# Altium integrated library Maxim Sensors.IntLib: 1172 symbols (part 36 of 61)
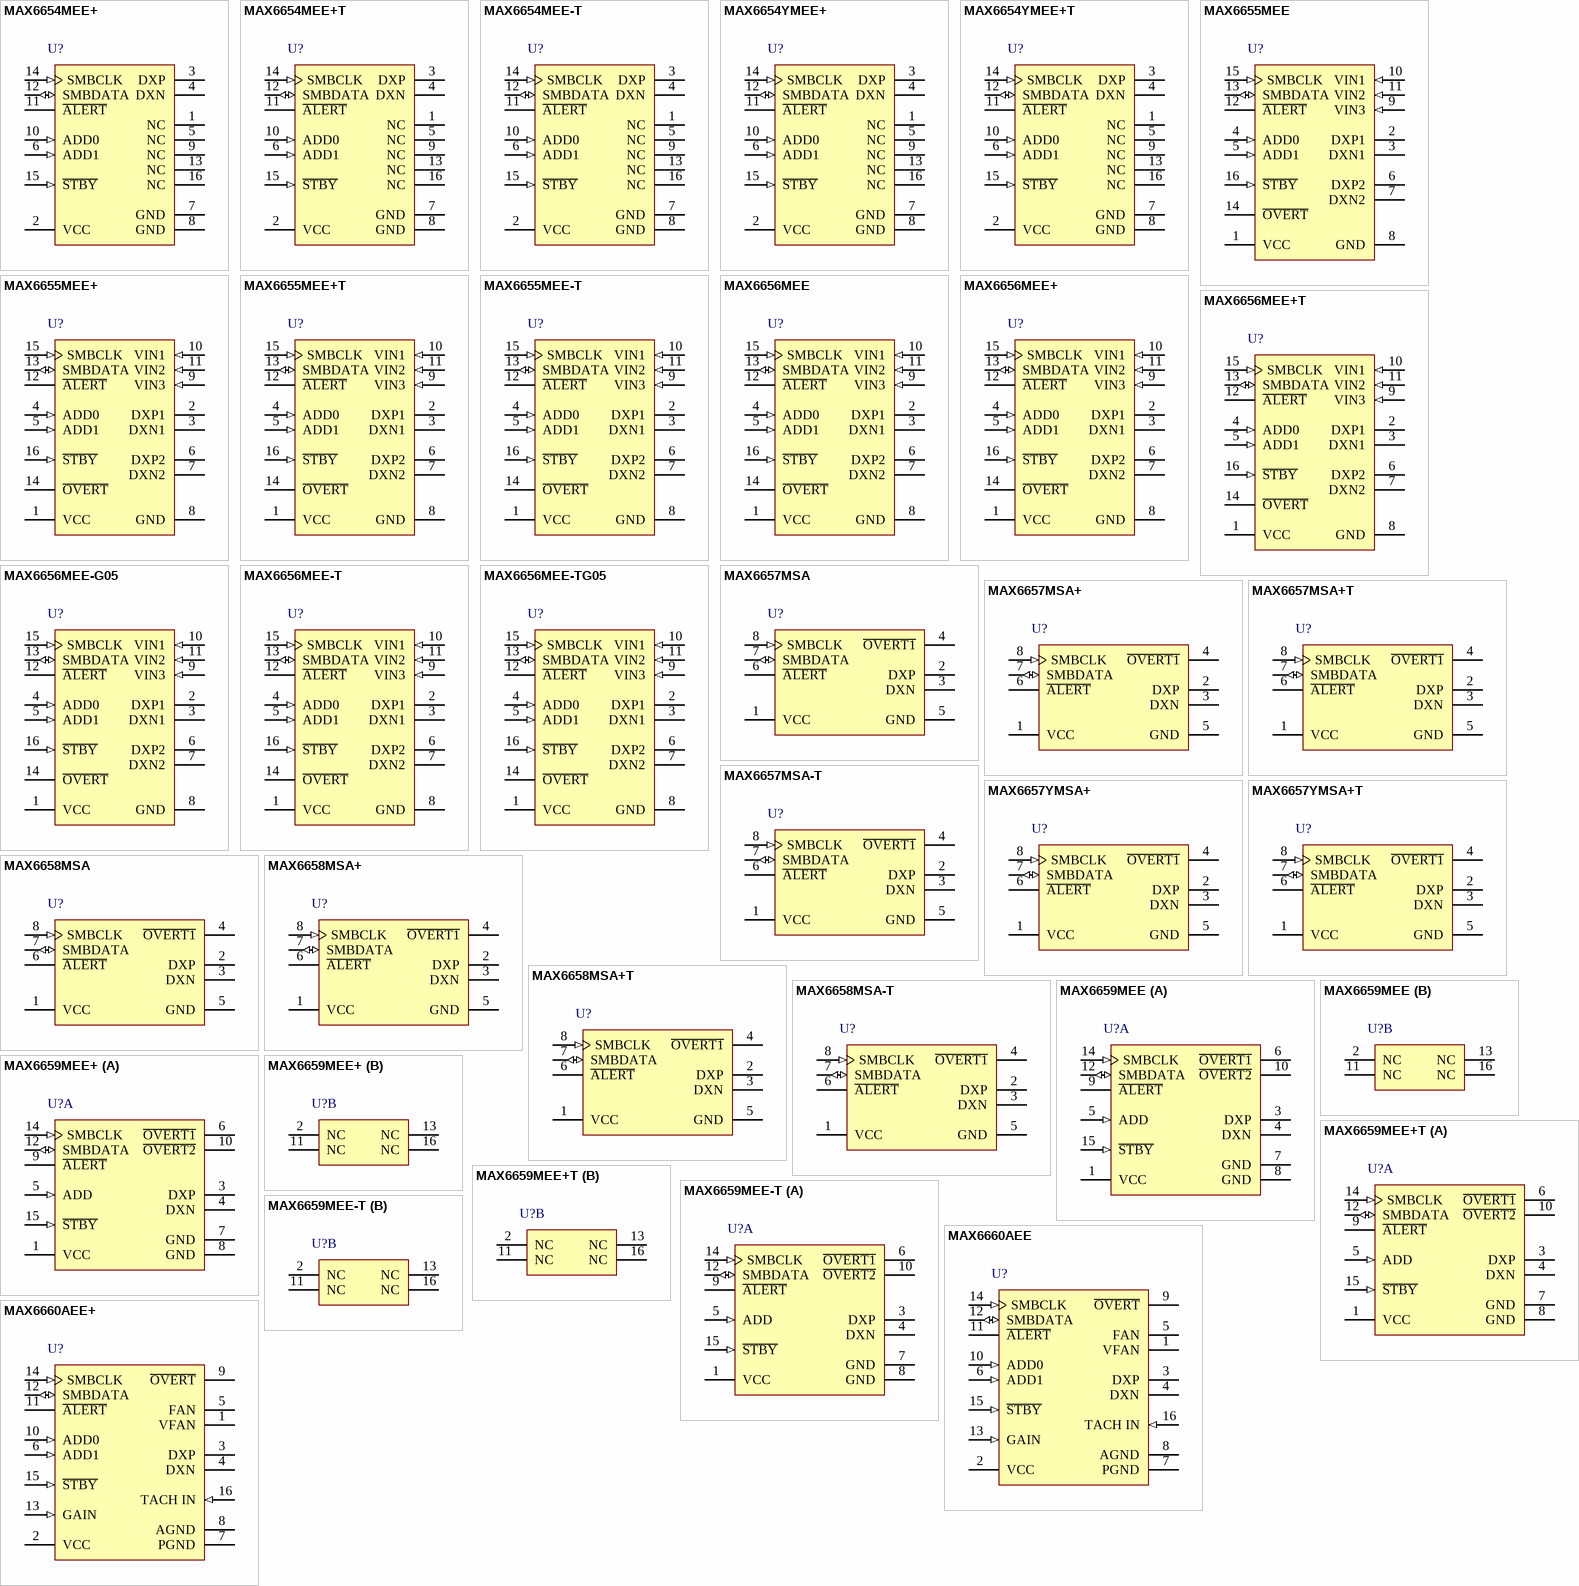
[diagram p68: symbols MAX6654MEE+ to MAX6660AEE+]

## MAX6656MEE-G05
designator U?
Dual Remote / Local Temperature Sensor and Four-Channel Voltage Monitor, 11 Bits Temperature Resolution, -55 to 125 degC, 16-Pin SOP (E16+5); Generic Part Number: MAX6656; PartNumber: MAX6656MEE-G05; Alarm Output: Alert, Overt; Functions: Remote & Local Sensor, Voltage Monitor; Interface: 2-Wire/I2C/SMBus; Multi Droppable: Yes; Parasite Pwr.: No; DatasheetVersion: Rev. 1; PackageVersion: Rev. K, 04/2012; PackageReference: E16-5; PackageDescription: 16-Pin Quarter Small-Outline Package, Body 3.9 x 4.89 mm, Pitch 0.635 mm; Supplier 1: Mouser; Supplier Part Number 1: N/A; Mounting Technology: Surface Mount; Code_JEDEC: MO-137; ComponentLink1Description: Manufacturer URL; ComponentLink1URL: http://www.maximintegrated.com/; ComponentLink2Description: Datasheet; ComponentLink2URL: http://datasheets.maximintegrated.com/en/ds/MAX6655-MAX6656.pdf; ComponentLink3Description: Package Specification; ComponentLink3URL: http://pdfserv.maximintegrated.com/package_dwgs/21-0055.PDF
footprint MAXM-E16-5_N (SOP, 16-Leads, Body 4.89x3.9mm, Pitch 0.635mm, IPC Medium Density)
footprint MAXM-E16-5_L (SOP, 16-Leads, Body 4.89x3.9mm, Pitch 0.635mm, IPC High Density)
footprint MAXM-E16-5_M (SOP, 16-Leads, Body 4.89x3.9mm, Pitch 0.635mm, IPC Low Density)
pins: 1 VCC (power) "Supply Voltage. +5V for MAX6655; +3.3V for MAX6656. Bypass VCC to GND with a 0.1uF capacitor.", 2 DXP1 "External Diode 1 Positive Connection. DXP1 is the combined current source and ADC positive input for remote-diode 1. If a remote-sensing junction is not used, connect DXP1 to DXN1.", 3 DXN1 "External Diode 1 Negative Connection. DXN1 is the combined current sink and ADC negative input for remote-diode 1. DXN1 is normally biased to a diode voltage above ground.", 4 ADD0 (in) "SMBus Slave Address Select Input. ADD0 and ADD1 are sampled upon power-up. Table 5 is the truth table.", 5 ADD1 (in) "SMBus Slave Address Select Input. ADD0 and ADD1 are sampled upon power-up.", 6 DXP2 "External Diode 2 Positive Connection. DXP2 is the combined current source and ADC positive input for remote-diode 2. If a remote-sensing junction is not used, connect DXP2 to DXN2.", 7 DXN2 "External Diode 2 Negative Connection. DXN2 is the combined current sink and ADC negative input for remote-diode 2. DXN2 is normally biased to a diode voltage above ground.", 8 GND (power) "Ground", 9 VIN3 (in) "External Voltage Monitor 3. VIN3 is typically used to monitor +2.5V supplies.", 10 VIN1 (in) "External Voltage Monitor 1. VIN1 is typically used to monitor +12V supplies.", 11 VIN2 (in) "External Voltage Monitor 2. VIN2 is typically used to monitor voltage supplies of +3.3V for MAX6655 and +5.0V for MAX6656.", 12 ~{ALERT} (oc) "SMBus Alert (Interrupt) Output, Open-Drain", 13 SMBDATA (io) "SMBus Serial-Data Input/Output, Open-Drain", 14 ~{OVERT} (oc) "Overtemperature Alarm Output, Open-Drain. O\V\E\R\T\ is an unlatched alarm output that responds to the programmed maximum temperature limit for all temperature channels.", 15 SMBCLK (in) "SMBus Serial-Clock Input", 16 ~{STBY} (in) "Hardware Standby Input. Drive S\T\B\Y\ low for low-power standby mode. Drive S\T\B\Y\ high for normal operating mode. Temperature and comparison threshold data are retained in standby mode."

## MAX6656MEE-T
designator U?
Dual Remote / Local Temperature Sensor and Four-Channel Voltage Monitor, 11 Bits Temperature Resolution, -55 to 125 degC, 16-Pin SOP (E16-5), Tape and Reel; Generic Part Number: MAX6656; PartNumber: MAX6656MEE-T; Alarm Output: Alert, Overt; Functions: Remote & Local Sensor, Voltage Monitor; Interface: 2-Wire/I2C/SMBus; Multi Droppable: Yes; Parasite Pwr.: No; DatasheetVersion: Rev. 1; PackageVersion: Rev. K, 04/2012; PackageReference: E16-5; PackageDescription: 16-Pin Quarter Small-Outline Package, Body 3.9 x 4.89 mm, Pitch 0.635 mm; Supplier 1: Digi-Key; Supplier Part Number 1: MAX6656MEE-T-ND; Supplier 2: Mouser; Supplier Part Number 2: 700-MAX6656MEE-T-NR; Packing: Tape and Reel; Mounting Technology: Surface Mount; Code_JEDEC: MO-137; ComponentLink1Description: Manufacturer URL; ComponentLink1URL: http://www.maximintegrated.com/; ComponentLink2Description: Datasheet; ComponentLink2URL: http://datasheets.maximintegrated.com/en/ds/MAX6655-MAX6656.pdf; ComponentLink3Description: Package Specification; ComponentLink3URL: http://pdfserv.maximintegrated.com/package_dwgs/21-0055.PDF
footprint MAXM-E16-5_N (SOP, 16-Leads, Body 4.89x3.9mm, Pitch 0.635mm, IPC Medium Density)
footprint MAXM-E16-5_L (SOP, 16-Leads, Body 4.89x3.9mm, Pitch 0.635mm, IPC High Density)
footprint MAXM-E16-5_M (SOP, 16-Leads, Body 4.89x3.9mm, Pitch 0.635mm, IPC Low Density)
pins: 1 VCC (power) "Supply Voltage. +5V for MAX6655; +3.3V for MAX6656. Bypass VCC to GND with a 0.1uF capacitor.", 2 DXP1 "External Diode 1 Positive Connection. DXP1 is the combined current source and ADC positive input for remote-diode 1. If a remote-sensing junction is not used, connect DXP1 to DXN1.", 3 DXN1 "External Diode 1 Negative Connection. DXN1 is the combined current sink and ADC negative input for remote-diode 1. DXN1 is normally biased to a diode voltage above ground.", 4 ADD0 (in) "SMBus Slave Address Select Input. ADD0 and ADD1 are sampled upon power-up. Table 5 is the truth table.", 5 ADD1 (in) "SMBus Slave Address Select Input. ADD0 and ADD1 are sampled upon power-up.", 6 DXP2 "External Diode 2 Positive Connection. DXP2 is the combined current source and ADC positive input for remote-diode 2. If a remote-sensing junction is not used, connect DXP2 to DXN2.", 7 DXN2 "External Diode 2 Negative Connection. DXN2 is the combined current sink and ADC negative input for remote-diode 2. DXN2 is normally biased to a diode voltage above ground.", 8 GND (power) "Ground", 9 VIN3 (in) "External Voltage Monitor 3. VIN3 is typically used to monitor +2.5V supplies.", 10 VIN1 (in) "External Voltage Monitor 1. VIN1 is typically used to monitor +12V supplies.", 11 VIN2 (in) "External Voltage Monitor 2. VIN2 is typically used to monitor voltage supplies of +3.3V for MAX6655 and +5.0V for MAX6656.", 12 ~{ALERT} (oc) "SMBus Alert (Interrupt) Output, Open-Drain", 13 SMBDATA (io) "SMBus Serial-Data Input/Output, Open-Drain", 14 ~{OVERT} (oc) "Overtemperature Alarm Output, Open-Drain. O\V\E\R\T\ is an unlatched alarm output that responds to the programmed maximum temperature limit for all temperature channels.", 15 SMBCLK (in) "SMBus Serial-Clock Input", 16 ~{STBY} (in) "Hardware Standby Input. Drive S\T\B\Y\ low for low-power standby mode. Drive S\T\B\Y\ high for normal operating mode. Temperature and comparison threshold data are retained in standby mode."

## MAX6656MEE-TG05
designator U?
Dual Remote / Local Temperature Sensor and Four-Channel Voltage Monitor, 11 Bits Temperature Resolution, -55 to 125 degC, 16-Pin SOP (E16+5); Generic Part Number: MAX6656; PartNumber: MAX6656MEE-TG05; Alarm Output: Alert, Overt; Functions: Remote & Local Sensor, Voltage Monitor; Interface: 2-Wire/I2C/SMBus; Multi Droppable: Yes; Packing: Tape and Reel; Parasite Pwr.: No; DatasheetVersion: Rev. 1; PackageVersion: Rev. K, 04/2012; PackageReference: E16-5; PackageDescription: 16-Pin Quarter Small-Outline Package, Body 3.9 x 4.89 mm, Pitch 0.635 mm; Supplier 1: Mouser; Supplier Part Number 1: N/A; Mounting Technology: Surface Mount; Code_JEDEC: MO-137; ComponentLink1Description: Manufacturer URL; ComponentLink1URL: http://www.maximintegrated.com/; ComponentLink2Description: Datasheet; ComponentLink2URL: http://datasheets.maximintegrated.com/en/ds/MAX6655-MAX6656.pdf; ComponentLink3Description: Package Specification; ComponentLink3URL: http://pdfserv.maximintegrated.com/package_dwgs/21-0055.PDF
footprint MAXM-E16-5_N (SOP, 16-Leads, Body 4.89x3.9mm, Pitch 0.635mm, IPC Medium Density)
footprint MAXM-E16-5_L (SOP, 16-Leads, Body 4.89x3.9mm, Pitch 0.635mm, IPC High Density)
footprint MAXM-E16-5_M (SOP, 16-Leads, Body 4.89x3.9mm, Pitch 0.635mm, IPC Low Density)
pins: 1 VCC (power) "Supply Voltage. +5V for MAX6655; +3.3V for MAX6656. Bypass VCC to GND with a 0.1uF capacitor.", 2 DXP1 "External Diode 1 Positive Connection. DXP1 is the combined current source and ADC positive input for remote-diode 1. If a remote-sensing junction is not used, connect DXP1 to DXN1.", 3 DXN1 "External Diode 1 Negative Connection. DXN1 is the combined current sink and ADC negative input for remote-diode 1. DXN1 is normally biased to a diode voltage above ground.", 4 ADD0 (in) "SMBus Slave Address Select Input. ADD0 and ADD1 are sampled upon power-up. Table 5 is the truth table.", 5 ADD1 (in) "SMBus Slave Address Select Input. ADD0 and ADD1 are sampled upon power-up.", 6 DXP2 "External Diode 2 Positive Connection. DXP2 is the combined current source and ADC positive input for remote-diode 2. If a remote-sensing junction is not used, connect DXP2 to DXN2.", 7 DXN2 "External Diode 2 Negative Connection. DXN2 is the combined current sink and ADC negative input for remote-diode 2. DXN2 is normally biased to a diode voltage above ground.", 8 GND (power) "Ground", 9 VIN3 (in) "External Voltage Monitor 3. VIN3 is typically used to monitor +2.5V supplies.", 10 VIN1 (in) "External Voltage Monitor 1. VIN1 is typically used to monitor +12V supplies.", 11 VIN2 (in) "External Voltage Monitor 2. VIN2 is typically used to monitor voltage supplies of +3.3V for MAX6655 and +5.0V for MAX6656.", 12 ~{ALERT} (oc) "SMBus Alert (Interrupt) Output, Open-Drain", 13 SMBDATA (io) "SMBus Serial-Data Input/Output, Open-Drain", 14 ~{OVERT} (oc) "Overtemperature Alarm Output, Open-Drain. O\V\E\R\T\ is an unlatched alarm output that responds to the programmed maximum temperature limit for all temperature channels.", 15 SMBCLK (in) "SMBus Serial-Clock Input", 16 ~{STBY} (in) "Hardware Standby Input. Drive S\T\B\Y\ low for low-power standby mode. Drive S\T\B\Y\ high for normal operating mode. Temperature and comparison threshold data are retained in standby mode."

## MAX6657MSA
designator U?
+ / -1 degC, SMBus-Compatible Remote / Local Temperature Sensor with Overtemperature Alarm, 11 Bits Temperature Resolution, 0 to 125 degC, 8-Pin SOIC (S8-5); Generic Part Number: MAX6657; PartNumber: MAX6657MSA; Alarm Output: Alert, Overt; Functions: Remote & Local Sensor; Interface: 2-Wire/I2C/SMBus; Multi Droppable: Yes; Parasite Pwr.: No; DatasheetVersion: Rev. 5; PackageVersion: Rev. D, 10/2012; PackageReference: S8-5; PackageDescription: 8-Pin Small-Outline IC, Narrow (0.15in) (S8-5), Body 4.90 x 3.90 mm, Pitch 1.27 mm; Supplier 1: Mouser; Supplier Part Number 1: N/A; Mounting Technology: Surface Mount; Code_JEDEC: MS012; ComponentLink1Description: Manufacturer URL; ComponentLink1URL: http://www.maximintegrated.com/; ComponentLink2Description: Datasheet; ComponentLink2URL: http://datasheets.maximintegrated.com/en/ds/MAX6657-MAX6659.pdf; ComponentLink3Description: Package Specification; ComponentLink3URL: http://pdfserv.maximintegrated.com/package_dwgs/21-0041.PDF
footprint MAXM-S8-5_N (SOIC, 8-Leads, Body 4.9x3.9mm, Pitch 1.27mm, IPC Medium Density)
footprint MAXM-S8-5_L (SOIC, 8-Leads, Body 4.9x3.9mm, Pitch 1.27mm, IPC High Density)
footprint MAXM-S8-5_M (SOIC, 8-Leads, Body 4.9x3.9mm, Pitch 1.27mm, IPC Low Density)
pins: 1 VCC (power) "Supply Voltage Input, +3V to +5.5V. Bypass to GND with a 0.1uF capacitor. A 200ohm series resistor is recommended but not required for additional noise filtering. See Typical Operating Circuit.", 2 DXP "Combined Remote-Diode Current Source and A/D Positive Input for Remote-Diode Channel. DO NOT LEAVE DXP UNCONNECTED; connect DXP to DXN if no remote diode is used. Place a 2200pF capacitor between DXP and DXN for noise (See Datasheet)", 3 DXN "Combined Remote-Diode Current Sink and A/D Negative Input. DXN is internally biased to one diode drop above ground.", 4 ~{OVERT1} (oc) "Overtemperature Active-Low Output, Open-Drain. Output is logic low only when temperature is above the software programmed threshold.", 5 GND (power) "Ground", 6 ~{ALERT} (oc) "SMBus Alert (Interrupt) Active-Low Output, Open-Drain. Asserts when temperature exceeds user-set limits (high or low temperature). Stays asserted until acknowledged by either reading the Status register or by successfully (See Datasheet)", 7 SMBDATA (io) "SMBus Serial-Data Input/Output, Open-Drain", 8 SMBCLK (in) "SMBus Serial-Clock Input"

## MAX6657MSA+
designator U?
+ / -1 degC, SMBus-Compatible Remote / Local Temperature Sensor with Overtemperature Alarm, 11 Bits Temperature Resolution, 0 to 125 degC, 8-Pin SOIC (S8-5), Pb-Free; Generic Part Number: MAX6657; PartNumber: MAX6657MSA+; Alarm Output: Alert, Overt; Functions: Remote & Local Sensor; Interface: 2-Wire/I2C/SMBus; Multi Droppable: Yes; Parasite Pwr.: No; DatasheetVersion: Rev. 5; PackageVersion: Rev. D, 10/2012; PackageReference: S8+5; PackageDescription: 8-Pin Small-Outline IC, Narrow (0.15in) (S8+5), Body 4.90 x 3.90 mm, Pitch 1.27 mm; Supplier 1: Digi-Key; Supplier Part Number 1: MAX6657MSA+-ND; Supplier 2: Mouser; Supplier Part Number 2: 700-MAX6657MSA; Mounting Technology: Surface Mount; Code_JEDEC: MS012; ComponentLink1Description: Manufacturer URL; ComponentLink1URL: http://www.maximintegrated.com/; ComponentLink2Description: Datasheet; ComponentLink2URL: http://datasheets.maximintegrated.com/en/ds/MAX6657-MAX6659.pdf; ComponentLink3Description: Package Specification; ComponentLink3URL: http://pdfserv.maximintegrated.com/package_dwgs/21-0041.PDF
footprint MAXM-S8+5_N (SOIC, 8-Leads, Body 4.90x3.90mm, Pitch 1.27mm, IPC Medium Density)
footprint MAXM-S8+5_L (SOIC, 8-Leads, Body 4.90x3.90mm, Pitch 1.27mm, IPC High Density)
footprint MAXM-S8+5_M (SOIC, 8-Leads, Body 4.90x3.90mm, Pitch 1.27mm, IPC Low Density)
pins: 1 VCC (power) "Supply Voltage Input, +3V to +5.5V. Bypass to GND with a 0.1uF capacitor. A 200ohm series resistor is recommended but not required for additional noise filtering. See Typical Operating Circuit", 2 DXP "Combined Remote-Diode Current Source and A/D Positive Input for Remote-Diode Channel. DO NOT LEAVE DXP UNCONNECTED; connect DXP to DXN if no remote diode is used. Place a 2200pF capacitor between DXP and DXN for noise (See Datasheet)", 3 DXN "Combined Remote-Diode Current Sink and A/D Negative Input. DXN is internally biased to one diode drop above ground.", 4 ~{OVERT1} (oc) "Overtemperature Active-Low Output, Open-Drain. Output is logic low only when temperature is above the software programmed threshold.", 5 GND (power) "Ground", 6 ~{ALERT} (oc) "SMBus Alert (Interrupt) Active-Low Output, Open-Drain. Asserts when temperature exceeds user-set limits (high or low temperature). Stays asserted until acknowledged by either reading the Status register or by successfully (See Datasheet)", 7 SMBDATA (io) "SMBus Serial-Data Input/Output, Open-Drain", 8 SMBCLK (in) "SMBus Serial-Clock Input"

## MAX6657MSA+T
designator U?
+ / -1 degC, SMBus-Compatible Remote / Local Temperature Sensor with Overtemperature Alarm, 11 Bits Temperature Resolution, 0 to 125 degC, 8-Pin SOIC (S8-5), Pb-Free, Tape and Reel; Generic Part Number: MAX6657; PartNumber: MAX6657MSA+T; Alarm Output: Alert, Overt; Functions: Remote & Local Sensor; Interface: 2-Wire/I2C/SMBus; Multi Droppable: Yes; Parasite Pwr.: No; DatasheetVersion: Rev. 5; PackageVersion: Rev. D, 10/2012; PackageReference: S8+5; PackageDescription: 8-Pin Small-Outline IC, Narrow (0.15in) (S8+5), Body 4.90 x 3.90 mm, Pitch 1.27 mm; Supplier 1: Digi-Key; Supplier Part Number 1: MAX6657MSA+TTR-ND; Supplier 2: Digi-Key; Supplier Part Number 2: MAX6657MSA+TCT-ND; Supplier 3: Digi-Key; Supplier Part Number 3: MAX6657MSA+TDKR-ND; Supplier 4: Mouser; Supplier Part Number 4: 700-MAX6657MSAT; Packing: Tape and Reel; Mounting Technology: Surface Mount; Code_JEDEC: MS012; ComponentLink1Description: Manufacturer URL; ComponentLink1URL: http://www.maximintegrated.com/; ComponentLink2Description: Datasheet; ComponentLink2URL: http://datasheets.maximintegrated.com/en/ds/MAX6657-MAX6659.pdf; ComponentLink3Description: Package Specification; ComponentLink3URL: http://pdfserv.maximintegrated.com/package_dwgs/21-0041.PDF
footprint MAXM-S8+5_N (SOIC, 8-Leads, Body 4.90x3.90mm, Pitch 1.27mm, IPC Medium Density)
footprint MAXM-S8+5_L (SOIC, 8-Leads, Body 4.90x3.90mm, Pitch 1.27mm, IPC High Density)
footprint MAXM-S8+5_M (SOIC, 8-Leads, Body 4.90x3.90mm, Pitch 1.27mm, IPC Low Density)
pins: 1 VCC (power) "Supply Voltage Input, +3V to +5.5V. Bypass to GND with a 0.1uF capacitor. A 200ohm series resistor is recommended but not required for additional noise filtering. See Typical Operating Circuit", 2 DXP "Combined Remote-Diode Current Source and A/D Positive Input for Remote-Diode Channel. DO NOT LEAVE DXP UNCONNECTED; connect DXP to DXN if no remote diode is used. Place a 2200pF capacitor between DXP and DXN for noise (See Datasheet)", 3 DXN "Combined Remote-Diode Current Sink and A/D Negative Input. DXN is internally biased to one diode drop above ground.", 4 ~{OVERT1} (oc) "Overtemperature Active-Low Output, Open-Drain. Output is logic low only when temperature is above the software programmed threshold.", 5 GND (power) "Ground", 6 ~{ALERT} (oc) "SMBus Alert (Interrupt) Active-Low Output, Open-Drain. Asserts when temperature exceeds user-set limits (high or low temperature). Stays asserted until acknowledged by either reading the Status register or by successfully (See Datasheet)", 7 SMBDATA (io) "SMBus Serial-Data Input/Output, Open-Drain", 8 SMBCLK (in) "SMBus Serial-Clock Input"

## MAX6657MSA-T
designator U?
+ / -1 degC, SMBus-Compatible Remote / Local Temperature Sensor with Overtemperature Alarm, 11 Bits Temperature Resolution, 0 to 125 degC, 8-Pin SOIC (S8-5), Tape and Reel; Generic Part Number: MAX6657; PartNumber: MAX6657MSA-T; Alarm Output: Alert, Overt; Functions: Remote & Local Sensor; Interface: 2-Wire/I2C/SMBus; Multi Droppable: Yes; Parasite Pwr.: No; DatasheetVersion: Rev. 5; PackageVersion: Rev. D, 10/2012; PackageReference: S8-5; PackageDescription: 8-Pin Small-Outline IC, Narrow (0.15in) (S8-5), Body 4.90 x 3.90 mm, Pitch 1.27 mm; Supplier 1: Mouser; Supplier Part Number 1: N/A; Packing: Tape and Reel; Mounting Technology: Surface Mount; Code_JEDEC: MS012; ComponentLink1Description: Manufacturer URL; ComponentLink1URL: http://www.maximintegrated.com/; ComponentLink2Description: Datasheet; ComponentLink2URL: http://datasheets.maximintegrated.com/en/ds/MAX6657-MAX6659.pdf; ComponentLink3Description: Package Specification; ComponentLink3URL: http://pdfserv.maximintegrated.com/package_dwgs/21-0041.PDF
footprint MAXM-S8-5_N (SOIC, 8-Leads, Body 4.9x3.9mm, Pitch 1.27mm, IPC Medium Density)
footprint MAXM-S8-5_L (SOIC, 8-Leads, Body 4.9x3.9mm, Pitch 1.27mm, IPC High Density)
footprint MAXM-S8-5_M (SOIC, 8-Leads, Body 4.9x3.9mm, Pitch 1.27mm, IPC Low Density)
pins: 1 VCC (power) "Supply Voltage Input, +3V to +5.5V. Bypass to GND with a 0.1uF capacitor. A 200ohm series resistor is recommended but not required for additional noise filtering. See Typical Operating Circuit.", 2 DXP "Combined Remote-Diode Current Source and A/D Positive Input for Remote-Diode Channel. DO NOT LEAVE DXP UNCONNECTED; connect DXP to DXN if no remote diode is used. Place a 2200pF capacitor between DXP and DXN for noise (See Datasheet)", 3 DXN "Combined Remote-Diode Current Sink and A/D Negative Input. DXN is internally biased to one diode drop above ground.", 4 ~{OVERT1} (oc) "Overtemperature Active-Low Output, Open-Drain. Output is logic low only when temperature is above the software programmed threshold.", 5 GND (power) "Ground", 6 ~{ALERT} (oc) "SMBus Alert (Interrupt) Active-Low Output, Open-Drain. Asserts when temperature exceeds user-set limits (high or low temperature). Stays asserted until acknowledged by either reading the Status register or by successfully (See Datasheet)", 7 SMBDATA (io) "SMBus Serial-Data Input/Output, Open-Drain", 8 SMBCLK (in) "SMBus Serial-Clock Input"

## MAX6657YMSA+
designator U?
+ / -1 degC, SMBus-Compatible Remote / Local Temperature Sensor with Overtemperature Alarm, 11 Bits Temperature Resolution, 0 to 125 degC, 8-Pin SOIC (S8+5), Pb-Free,; Generic Part Number: MAX6657; PartNumber: MAX6657YMSA+; Alarm Output: Alert, Overt; Functions: Remote & Local Sensor; Interface: 2-Wire/I2C/SMBus; Multi Droppable: Yes; Parasite Pwr.: No; DatasheetVersion: Rev. 5; PackageVersion: Rev. D, 10/2012; PackageReference: S8+5; PackageDescription: 8-Pin Small-Outline IC, Narrow (0.15in) (S8+5), Body 4.90 x 3.90 mm, Pitch 1.27 mm; Supplier 1: Digi-Key; Supplier Part Number 1: MAX6657YMSA+-ND; Supplier 2: Mouser; Supplier Part Number 2: 700-MAX6657YMSA; Mounting Technology: Surface Mount; Code_JEDEC: MS012; ComponentLink1Description: Manufacturer URL; ComponentLink1URL: http://www.maximintegrated.com/; ComponentLink2Description: Datasheet; ComponentLink2URL: http://datasheets.maximintegrated.com/en/ds/MAX6657-MAX6659.pdf; ComponentLink3Description: Package Specification; ComponentLink3URL: http://pdfserv.maximintegrated.com/package_dwgs/21-0041.PDF
footprint MAXM-S8+5_N (SOIC, 8-Leads, Body 4.90x3.90mm, Pitch 1.27mm, IPC Medium Density)
footprint MAXM-S8+5_L (SOIC, 8-Leads, Body 4.90x3.90mm, Pitch 1.27mm, IPC High Density)
footprint MAXM-S8+5_M (SOIC, 8-Leads, Body 4.90x3.90mm, Pitch 1.27mm, IPC Low Density)
pins: 1 VCC (power) "Supply Voltage Input, +3V to +5.5V. Bypass to GND with a 0.1uF capacitor. A 200ohm series resistor is recommended but not required for additional noise filtering. See Typical Operating Circuit", 2 DXP "Combined Remote-Diode Current Source and A/D Positive Input for Remote-Diode Channel. DO NOT LEAVE DXP UNCONNECTED; connect DXP to DXN if no remote diode is used. Place a 2200pF capacitor between DXP and DXN for noise (See Datasheet)", 3 DXN "Combined Remote-Diode Current Sink and A/D Negative Input. DXN is internally biased to one diode drop above ground.", 4 ~{OVERT1} (oc) "Overtemperature Active-Low Output, Open-Drain. Output is logic low only when temperature is above the software programmed threshold.", 5 GND (power) "Ground", 6 ~{ALERT} (oc) "SMBus Alert (Interrupt) Active-Low Output, Open-Drain. Asserts when temperature exceeds user-set limits (high or low temperature). Stays asserted until acknowledged by either reading the Status register or by successfully (See Datasheet)", 7 SMBDATA (io) "SMBus Serial-Data Input/Output, Open-Drain", 8 SMBCLK (in) "SMBus Serial-Clock Input"

## MAX6657YMSA+T
designator U?
+ / -1 degC, SMBus-Compatible Remote / Local Temperature Sensor with Overtemperature Alarm, 11 Bits Temperature Resolution, 0 to 125 degC, 8-Pin SOIC (S8+5), Pb-Free, Tape and Reel; Generic Part Number: MAX6657; PartNumber: MAX6657YMSA+T; Alarm Output: Alert, Overt; Functions: Remote & Local Sensor; Interface: 2-Wire/I2C/SMBus; Multi Droppable: Yes; Parasite Pwr.: No; DatasheetVersion: Rev. 5; PackageVersion: Rev. D, 10/2012; PackageReference: S8+5; PackageDescription: 8-Pin Small-Outline IC, Narrow (0.15in) (S8+5), Body 4.90 x 3.90 mm, Pitch 1.27 mm; Supplier 1: Digi-Key; Supplier Part Number 1: MAX6657YMSA+T-ND; Supplier 2: Mouser; Supplier Part Number 2: 700-MAX6657YMSAT; Packing: Tape and Reel; Mounting Technology: Surface Mount; Code_JEDEC: MS012; ComponentLink1Description: Manufacturer URL; ComponentLink1URL: http://www.maximintegrated.com/; ComponentLink2Description: Datasheet; ComponentLink2URL: http://datasheets.maximintegrated.com/en/ds/MAX6657-MAX6659.pdf; ComponentLink3Description: Package Specification; ComponentLink3URL: http://pdfserv.maximintegrated.com/package_dwgs/21-0041.PDF
footprint MAXM-S8+5_N (SOIC, 8-Leads, Body 4.90x3.90mm, Pitch 1.27mm, IPC Medium Density)
footprint MAXM-S8+5_L (SOIC, 8-Leads, Body 4.90x3.90mm, Pitch 1.27mm, IPC High Density)
footprint MAXM-S8+5_M (SOIC, 8-Leads, Body 4.90x3.90mm, Pitch 1.27mm, IPC Low Density)
pins: 1 VCC (power) "Supply Voltage Input, +3V to +5.5V. Bypass to GND with a 0.1uF capacitor. A 200ohm series resistor is recommended but not required for additional noise filtering. See Typical Operating Circuit", 2 DXP "Combined Remote-Diode Current Source and A/D Positive Input for Remote-Diode Channel. DO NOT LEAVE DXP UNCONNECTED; connect DXP to DXN if no remote diode is used. Place a 2200pF capacitor between DXP and DXN for noise (See Datasheet)", 3 DXN "Combined Remote-Diode Current Sink and A/D Negative Input. DXN is internally biased to one diode drop above ground.", 4 ~{OVERT1} (oc) "Overtemperature Active-Low Output, Open-Drain. Output is logic low only when temperature is above the software programmed threshold.", 5 GND (power) "Ground", 6 ~{ALERT} (oc) "SMBus Alert (Interrupt) Active-Low Output, Open-Drain. Asserts when temperature exceeds user-set limits (high or low temperature). Stays asserted until acknowledged by either reading the Status register or by successfully (See Datasheet)", 7 SMBDATA (io) "SMBus Serial-Data Input/Output, Open-Drain", 8 SMBCLK (in) "SMBus Serial-Clock Input"

## MAX6658MSA
designator U?
+ / -1 degC, SMBus-Compatible Remote / Local Temperature Sensor with Overtemperature Alarm, 11 Bits Temperature Resolution, -55 to 125 degC, 8-Pin SOIC (S8-5); Generic Part Number: MAX6658; PartNumber: MAX6658MSA; Alarm Output: Alert, Overt; Functions: Remote & Local Sensor; Interface: 2-Wire/I2C/SMBus; Multi Droppable: Yes; Parasite Pwr.: No; DatasheetVersion: Rev. 5; PackageVersion: Rev. D, 10/2012; PackageReference: S8-5; PackageDescription: 8-Pin Small-Outline IC, Narrow (0.15in) (S8-5), Body 4.90 x 3.90 mm, Pitch 1.27 mm; Supplier 1: Mouser; Supplier Part Number 1: N/A; Mounting Technology: Surface Mount; Code_JEDEC: MS012; ComponentLink1Description: Manufacturer URL; ComponentLink1URL: http://www.maximintegrated.com/; ComponentLink2Description: Datasheet; ComponentLink2URL: http://datasheets.maximintegrated.com/en/ds/MAX6657-MAX6659.pdf; ComponentLink3Description: Package Specification; ComponentLink3URL: http://pdfserv.maximintegrated.com/package_dwgs/21-0041.PDF
footprint MAXM-S8-5_N (SOIC, 8-Leads, Body 4.9x3.9mm, Pitch 1.27mm, IPC Medium Density)
footprint MAXM-S8-5_L (SOIC, 8-Leads, Body 4.9x3.9mm, Pitch 1.27mm, IPC High Density)
footprint MAXM-S8-5_M (SOIC, 8-Leads, Body 4.9x3.9mm, Pitch 1.27mm, IPC Low Density)
pins: 1 VCC (power) "Supply Voltage Input, +3V to +5.5V. Bypass to GND with a 0.1uF capacitor. A 200ohm series resistor is recommended but not required for additional noise filtering. See Typical Operating Circuit", 2 DXP "Combined Remote-Diode Current Source and A/D Positive Input for Remote-Diode Channel. DO NOT LEAVE DXP UNCONNECTED; connect DXP to DXN if no remote diode is used. Place a 2200pF capacitor between DXP and DXN for noise (See Datasheet)", 3 DXN "Combined Remote-Diode Current Sink and A/D Negative Input. DXN is internally biased to one diode drop above ground.", 4 ~{OVERT1} (oc) "Overtemperature Active-Low Output, Open-Drain. Output is logic low only when temperature is above the software programmed threshold.", 5 GND (power) "Ground", 6 ~{ALERT} (oc) "SMBus Alert (Interrupt) Active-Low Output, Open-Drain. Asserts when temperature exceeds user-set limits (high or low temperature). Stays asserted until acknowledged by either reading the Status register or by successfully (See Datasheet)", 7 SMBDATA (io) "SMBus Serial-Data Input/Output, Open-Drain", 8 SMBCLK (in) "SMBus Serial-Clock Input"

## MAX6658MSA+
designator U?
+ / -1 degC, SMBus-Compatible Remote / Local Temperature Sensor with Overtemperature Alarm, 11 Bits Temperature Resolution, -55 to 125 degC, 8-Pin SOIC (S8+5), Pb-Free; Generic Part Number: MAX6658; PartNumber: MAX6658MSA+; Alarm Output: Alert, Overt; Functions: Remote & Local Sensor; Interface: 2-Wire/I2C/SMBus; Multi Droppable: Yes; Parasite Pwr.: No; DatasheetVersion: Rev. 5; PackageVersion: Rev. D, 10/2012; PackageReference: S8+5; PackageDescription: 8-Pin Small-Outline IC, Narrow (0.15in) (S8+5), Body 4.90 x 3.90 mm, Pitch 1.27 mm; Supplier 1: Digi-Key; Supplier Part Number 1: MAX6658MSA+-ND; Supplier 2: Newark; Supplier Part Number 2: 68K4974; Supplier 3: Mouser; Supplier Part Number 3: 700-MAX6658MSA; Mounting Technology: Surface Mount; Code_JEDEC: MS012; ComponentLink1Description: Manufacturer URL; ComponentLink1URL: http://www.maximintegrated.com/; ComponentLink2Description: Datasheet; ComponentLink2URL: http://datasheets.maximintegrated.com/en/ds/MAX6657-MAX6659.pdf; ComponentLink3Description: Package Specification; ComponentLink3URL: http://pdfserv.maximintegrated.com/package_dwgs/21-0041.PDF
footprint MAXM-S8+5_N (SOIC, 8-Leads, Body 4.90x3.90mm, Pitch 1.27mm, IPC Medium Density)
footprint MAXM-S8+5_L (SOIC, 8-Leads, Body 4.90x3.90mm, Pitch 1.27mm, IPC High Density)
footprint MAXM-S8+5_M (SOIC, 8-Leads, Body 4.90x3.90mm, Pitch 1.27mm, IPC Low Density)
pins: 1 VCC (power) "Supply Voltage Input, +3V to +5.5V. Bypass to GND with a 0.1uF capacitor. A 200ohm series resistor is recommended but not required for additional noise filtering. See Typical Operating Circuit", 2 DXP "Combined Remote-Diode Current Source and A/D Positive Input for Remote-Diode Channel. DO NOT LEAVE DXP UNCONNECTED; connect DXP to DXN if no remote diode is used. Place a 2200pF capacitor between DXP and DXN for noise (See Datasheet)", 3 DXN "Combined Remote-Diode Current Sink and A/D Negative Input. DXN is internally biased to one diode drop above ground.", 4 ~{OVERT1} (oc) "Overtemperature Active-Low Output, Open-Drain. Output is logic low only when temperature is above the software programmed threshold.", 5 GND (power) "Ground", 6 ~{ALERT} (oc) "SMBus Alert (Interrupt) Active-Low Output, Open-Drain. Asserts when temperature exceeds user-set limits (high or low temperature). Stays asserted until acknowledged by either reading the Status register or by successfully (See Datasheet)", 7 SMBDATA (io) "SMBus Serial-Data Input/Output, Open-Drain", 8 SMBCLK (in) "SMBus Serial-Clock Input"

## MAX6658MSA+T
designator U?
+ / -1 degC, SMBus-Compatible Remote / Local Temperature Sensor with Overtemperature Alarm, 11 Bits Temperature Resolution, -55 to 125 degC, 8-Pin SOIC (S8+5), Pb-Free, Tape and Reel; Generic Part Number: MAX6658; PartNumber: MAX6658MSA+T; Alarm Output: Alert, Overt; Functions: Remote & Local Sensor; Interface: 2-Wire/I2C/SMBus; Multi Droppable: Yes; Parasite Pwr.: No; DatasheetVersion: Rev. 5; PackageVersion: Rev. D, 10/2012; PackageReference: S8+5; PackageDescription: 8-Pin Small-Outline IC, Narrow (0.15in) (S8+5), Body 4.90 x 3.90 mm, Pitch 1.27 mm; Supplier 1: Digi-Key; Supplier Part Number 1: MAX6658MSA+T-ND; Supplier 2: Mouser; Supplier Part Number 2: 700-MAX6658MSAT; Packing: Tape and Reel; Mounting Technology: Surface Mount; Code_JEDEC: MS012; ComponentLink1Description: Manufacturer URL; ComponentLink1URL: http://www.maximintegrated.com/; ComponentLink2Description: Datasheet; ComponentLink2URL: http://datasheets.maximintegrated.com/en/ds/MAX6657-MAX6659.pdf; ComponentLink3Description: Package Specification; ComponentLink3URL: http://pdfserv.maximintegrated.com/package_dwgs/21-0041.PDF
footprint MAXM-S8+5_N (SOIC, 8-Leads, Body 4.90x3.90mm, Pitch 1.27mm, IPC Medium Density)
footprint MAXM-S8+5_L (SOIC, 8-Leads, Body 4.90x3.90mm, Pitch 1.27mm, IPC High Density)
footprint MAXM-S8+5_M (SOIC, 8-Leads, Body 4.90x3.90mm, Pitch 1.27mm, IPC Low Density)
pins: 1 VCC (power) "Supply Voltage Input, +3V to +5.5V. Bypass to GND with a 0.1uF capacitor. A 200ohm series resistor is recommended but not required for additional noise filtering. See Typical Operating Circuit", 2 DXP "Combined Remote-Diode Current Source and A/D Positive Input for Remote-Diode Channel. DO NOT LEAVE DXP UNCONNECTED; connect DXP to DXN if no remote diode is used. Place a 2200pF capacitor between DXP and DXN for noise (See Datasheet)", 3 DXN "Combined Remote-Diode Current Sink and A/D Negative Input. DXN is internally biased to one diode drop above ground.", 4 ~{OVERT1} (oc) "Overtemperature Active-Low Output, Open-Drain. Output is logic low only when temperature is above the software programmed threshold.", 5 GND (power) "Ground", 6 ~{ALERT} (oc) "SMBus Alert (Interrupt) Active-Low Output, Open-Drain. Asserts when temperature exceeds user-set limits (high or low temperature). Stays asserted until acknowledged by either reading the Status register or by successfully (See Datasheet)", 7 SMBDATA (io) "SMBus Serial-Data Input/Output, Open-Drain", 8 SMBCLK (in) "SMBus Serial-Clock Input"

## MAX6658MSA-T
designator U?
+ / -1 degC, SMBus-Compatible Remote / Local Temperature Sensor with Overtemperature Alarm, 11 Bits Temperature Resolution, -55 to 125 degC, 8-Pin SOIC (S8-5), Tape and Reel; Generic Part Number: MAX6658; PartNumber: MAX6658MSA-T; Alarm Output: Alert, Overt; Functions: Remote & Local Sensor; Interface: 2-Wire/I2C/SMBus; Multi Droppable: Yes; Parasite Pwr.: No; DatasheetVersion: Rev. 5; PackageVersion: Rev. D, 10/2012; PackageReference: S8-5; PackageDescription: 8-Pin Small-Outline IC, Narrow (0.15in) (S8-5), Body 4.90 x 3.90 mm, Pitch 1.27 mm; Supplier 1: Mouser; Supplier Part Number 1: N/A; Packing: Tape and Reel; Mounting Technology: Surface Mount; Code_JEDEC: MS012; ComponentLink1Description: Manufacturer URL; ComponentLink1URL: http://www.maximintegrated.com/; ComponentLink2Description: Datasheet; ComponentLink2URL: http://datasheets.maximintegrated.com/en/ds/MAX6657-MAX6659.pdf; ComponentLink3Description: Package Specification; ComponentLink3URL: http://pdfserv.maximintegrated.com/package_dwgs/21-0041.PDF
footprint MAXM-S8-5_N (SOIC, 8-Leads, Body 4.9x3.9mm, Pitch 1.27mm, IPC Medium Density)
footprint MAXM-S8-5_L (SOIC, 8-Leads, Body 4.9x3.9mm, Pitch 1.27mm, IPC High Density)
footprint MAXM-S8-5_M (SOIC, 8-Leads, Body 4.9x3.9mm, Pitch 1.27mm, IPC Low Density)
pins: 1 VCC (power) "Supply Voltage Input, +3V to +5.5V. Bypass to GND with a 0.1uF capacitor. A 200ohm series resistor is recommended but not required for additional noise filtering. See Typical Operating Circuit", 2 DXP "Combined Remote-Diode Current Source and A/D Positive Input for Remote-Diode Channel. DO NOT LEAVE DXP UNCONNECTED; connect DXP to DXN if no remote diode is used. Place a 2200pF capacitor between DXP and DXN for noise (See Datasheet)", 3 DXN "Combined Remote-Diode Current Sink and A/D Negative Input. DXN is internally biased to one diode drop above ground.", 4 ~{OVERT1} (oc) "Overtemperature Active-Low Output, Open-Drain. Output is logic low only when temperature is above the software programmed threshold.", 5 GND (power) "Ground", 6 ~{ALERT} (oc) "SMBus Alert (Interrupt) Active-Low Output, Open-Drain. Asserts when temperature exceeds user-set limits (high or low temperature). Stays asserted until acknowledged by either reading the Status register or by successfully (See Datasheet)", 7 SMBDATA (io) "SMBus Serial-Data Input/Output, Open-Drain", 8 SMBCLK (in) "SMBus Serial-Clock Input"

## MAX6659MEE
designator U?
+ / -1 degC, SMBus-Compatible Remote / Local Temperature Sensor with Overtemperature Alarm, 11 Bits Temperature Resolution, -55 to 125 degC, 16-Pin SOP (E16-5); Generic Part Number: MAX6659; PartNumber: MAX6659MEE; Alarm Output: Alert, Overt; Functions: Remote & Local Sensor; Interface: 2-Wire/I2C/SMBus; Multi Droppable: Yes; Parasite Pwr.: No; DatasheetVersion: Rev. 5; PackageVersion: Rev. K, 04/2012; PackageReference: E16-5; PackageDescription: 16-Pin Quarter Small-Outline Package, Body 3.9 x 4.89 mm, Pitch 0.635 mm; Supplier 1: Mouser; Supplier Part Number 1: N/A; Mounting Technology: Surface Mount; Code_JEDEC: MO-137; ComponentLink1Description: Manufacturer URL; ComponentLink1URL: http://www.maximintegrated.com/; ComponentLink2Description: Datasheet; ComponentLink2URL: http://datasheets.maximintegrated.com/en/ds/MAX6657-MAX6659.pdf; ComponentLink3Description: Package Specification; ComponentLink3URL: http://pdfserv.maximintegrated.com/package_dwgs/21-0055.PDF
footprint MAXM-E16-5_N (SOP, 16-Leads, Body 4.89x3.9mm, Pitch 0.635mm, IPC Medium Density)
footprint MAXM-E16-5_L (SOP, 16-Leads, Body 4.89x3.9mm, Pitch 0.635mm, IPC High Density)
footprint MAXM-E16-5_M (SOP, 16-Leads, Body 4.89x3.9mm, Pitch 0.635mm, IPC Low Density)
part A pins: 1 VCC (power) "Supply Voltage Input, +3V to +5.5V. Bypass to GND with a 0.1uF capacitor. A 200ohm series resistor is recommended but not required for additional noise filtering. See Typical Operating Circuit.", 3 DXP "Combined Remote-Diode Current Source and A/D Positive Input for Remote-Diode Channel. DO NOT LEAVE DXP UNCONNECTED; connect DXP to DXN if no remote diode is used. Place a 2200pF capacitor between DXP and DXN for noise (See Datasheet)", 4 DXN "Combined Remote-Diode Current Sink and A/D Negative Input. DXN is internally biased to one diode drop above ground.", 5 ADD (in) "SMBus Address-Select Pin. The MAX6659 is set to one of three available addresses (connect to VCC, GND, or leave open). See Slave Addresses section.", 6 ~{OVERT1} (oc) "Overtemperature Active-Low Output, Open-Drain. Output is logic low only when temperature is above the software programmed threshold.", 7 GND (power) "Ground", 8 GND (power) "Ground", 9 ~{ALERT} (oc) "SMBus Alert (Interrupt) Active-Low Output, Open-Drain. Asserts when temperature exceeds user-set limits (high or low temperature). Stays asserted until acknowledged by either reading the Status register or by successfully (See Datasheet)", 10 ~{OVERT2} (oc) "Overtemperature Active-Low Output, Open-Drain. Output is logic low only when temperature is above the software programmed threshold.", 12 SMBDATA (io) "SMBus Serial-Data Input/Output, Open-Drain", 14 SMBCLK (in) "SMBus Serial-Clock Input", 15 ~{STBY} (in) "Hardware Standby Input. Temperature and comparison threshold data are retained in standby mode. If S\T\B\Y\ is low, the IC is put into standby mode."
part B pins: 2 NC "Not internally connected. Do not make connections to these pins.", 11 NC "Not internally connected. Do not make connections to these pins.", 13 NC "Not internally connected. Do not make connections to these pins.", 16 NC "Not internally connected. Do not make connections to these pins."

## MAX6659MEE+
designator U?
+ / -1 degC, SMBus-Compatible Remote / Local Temperature Sensor with Overtemperature Alarm, 11 Bits Temperature Resolution, -55 to 125 degC, 16-Pin SOP (E16+5), Pb-Free,; Generic Part Number: MAX6659; PartNumber: MAX6659MEE+; Alarm Output: Alert, Overt; Functions: Remote & Local Sensor; Interface: 2-Wire/I2C/SMBus; Multi Droppable: Yes; Parasite Pwr.: No; DatasheetVersion: Rev. 5; PackageVersion: Rev. K, 04/2012; PackageReference: E16+5; PackageDescription: 16-Pin Quarter Small-Outline Package, Body 3.9 x 4.89 mm, Pitch 0.635 mm; Supplier 1: Digi-Key; Supplier Part Number 1: MAX6659MEE+-ND; Supplier 2: Mouser; Supplier Part Number 2: 700-MAX6659MEE; Mounting Technology: Surface Mount; Code_JEDEC: MO-137; ComponentLink1Description: Manufacturer URL; ComponentLink1URL: http://www.maximintegrated.com/; ComponentLink2Description: Datasheet; ComponentLink2URL: http://datasheets.maximintegrated.com/en/ds/MAX6657-MAX6659.pdf; ComponentLink3Description: Package Specification; ComponentLink3URL: http://pdfserv.maximintegrated.com/package_dwgs/21-0055.PDF
footprint MAXM-E16+5_N (SOP, 16-Leads, Body 4.89x3.9mm, Pitch 0.635mm, IPC Medium Density)
footprint MAXM-E16+5_L (SOP, 16-Leads, Body 4.89x3.9mm, Pitch 0.635mm, IPC High Density)
footprint MAXM-E16+5_M (SOP, 16-Leads, Body 4.89x3.9mm, Pitch 0.635mm, IPC Low Density)
part A pins: 1 VCC (power) "Supply Voltage Input, +3V to +5.5V. Bypass to GND with a 0.1uF capacitor. A 200ohm series resistor is recommended but not required for additional noise filtering. See Typical Operating Circuit.", 3 DXP "Combined Remote-Diode Current Source and A/D Positive Input for Remote-Diode Channel. DO NOT LEAVE DXP UNCONNECTED; connect DXP to DXN if no remote diode is used. Place a 2200pF capacitor between DXP and DXN for noise (See Datasheet)", 4 DXN "Combined Remote-Diode Current Sink and A/D Negative Input. DXN is internally biased to one diode drop above ground.", 5 ADD (in) "SMBus Address-Select Pin. The MAX6659 is set to one of three available addresses (connect to VCC, GND, or leave open). See Slave Addresses section.", 6 ~{OVERT1} (oc) "Overtemperature Active-Low Output, Open-Drain. Output is logic low only when temperature is above the software programmed threshold.", 7 GND (power) "Ground", 8 GND (power) "Ground", 9 ~{ALERT} (oc) "SMBus Alert (Interrupt) Active-Low Output, Open-Drain. Asserts when temperature exceeds user-set limits (high or low temperature). Stays asserted until acknowledged by either reading the Status register or by successfully (See Datasheet)", 10 ~{OVERT2} (oc) "Overtemperature Active-Low Output, Open-Drain. Output is logic low only when temperature is above the software programmed threshold.", 12 SMBDATA (io) "SMBus Serial-Data Input/Output, Open-Drain", 14 SMBCLK (in) "SMBus Serial-Clock Input", 15 ~{STBY} (in) "Hardware Standby Input. Temperature and comparison threshold data are retained in standby mode. If S\T\B\Y\ is low, the IC is put into standby mode."
part B pins: 2 NC "Not internally connected. Do not make connections to these pins.", 11 NC "Not internally connected. Do not make connections to these pins.", 13 NC "Not internally connected. Do not make connections to these pins.", 16 NC "Not internally connected. Do not make connections to these pins."

## MAX6659MEE+T
designator U?
+ / -1 degC, SMBus-Compatible Remote / Local Temperature Sensor with Overtemperature Alarm, 11 Bits Temperature Resolution, -55 to 125 degC, 16-Pin SOP (E16+5), Pb-Free, Tape and Reel; Generic Part Number: MAX6659; PartNumber: MAX6659MEE+T; Alarm Output: Alert, Overt; Functions: Remote & Local Sensor; Interface: 2-Wire/I2C/SMBus; Multi Droppable: Yes; Parasite Pwr.: No; DatasheetVersion: Rev. 5; PackageVersion: Rev. K, 04/2012; PackageReference: E16+5; PackageDescription: 16-Pin Quarter Small-Outline Package, Body 3.9 x 4.89 mm, Pitch 0.635 mm; Supplier 1: Digi-Key; Supplier Part Number 1: MAX6659MEE+T-ND; Supplier 2: Mouser; Supplier Part Number 2: 700-MAX6659MEET; Packing: Tape and Reel; Mounting Technology: Surface Mount; Code_JEDEC: MO-137; ComponentLink1Description: Manufacturer URL; ComponentLink1URL: http://www.maximintegrated.com/; ComponentLink2Description: Datasheet; ComponentLink2URL: http://datasheets.maximintegrated.com/en/ds/MAX6657-MAX6659.pdf; ComponentLink3Description: Package Specification; ComponentLink3URL: http://pdfserv.maximintegrated.com/package_dwgs/21-0055.PDF
footprint MAXM-E16+5_N (SOP, 16-Leads, Body 4.89x3.9mm, Pitch 0.635mm, IPC Medium Density)
footprint MAXM-E16+5_L (SOP, 16-Leads, Body 4.89x3.9mm, Pitch 0.635mm, IPC High Density)
footprint MAXM-E16+5_M (SOP, 16-Leads, Body 4.89x3.9mm, Pitch 0.635mm, IPC Low Density)
part A pins: 1 VCC (power) "Supply Voltage Input, +3V to +5.5V. Bypass to GND with a 0.1uF capacitor. A 200ohm series resistor is recommended but not required for additional noise filtering. See Typical Operating Circuit.", 3 DXP "Combined Remote-Diode Current Source and A/D Positive Input for Remote-Diode Channel. DO NOT LEAVE DXP UNCONNECTED; connect DXP to DXN if no remote diode is used. Place a 2200pF capacitor between DXP and DXN for noise (See Datasheet)", 4 DXN "Combined Remote-Diode Current Sink and A/D Negative Input. DXN is internally biased to one diode drop above ground.", 5 ADD (in) "SMBus Address-Select Pin. The MAX6659 is set to one of three available addresses (connect to VCC, GND, or leave open). See Slave Addresses section.", 6 ~{OVERT1} (oc) "Overtemperature Active-Low Output, Open-Drain. Output is logic low only when temperature is above the software programmed threshold.", 7 GND (power) "Ground", 8 GND (power) "Ground", 9 ~{ALERT} (oc) "SMBus Alert (Interrupt) Active-Low Output, Open-Drain. Asserts when temperature exceeds user-set limits (high or low temperature). Stays asserted until acknowledged by either reading the Status register or by successfully (See Datasheet)", 10 ~{OVERT2} (oc) "Overtemperature Active-Low Output, Open-Drain. Output is logic low only when temperature is above the software programmed threshold.", 12 SMBDATA (io) "SMBus Serial-Data Input/Output, Open-Drain", 14 SMBCLK (in) "SMBus Serial-Clock Input", 15 ~{STBY} (in) "Hardware Standby Input. Temperature and comparison threshold data are retained in standby mode. If S\T\B\Y\ is low, the IC is put into standby mode."
part B pins: 2 NC "Not internally connected. Do not make connections to these pins.", 11 NC "Not internally connected. Do not make connections to these pins.", 13 NC "Not internally connected. Do not make connections to these pins.", 16 NC "Not internally connected. Do not make connections to these pins."

## MAX6659MEE-T
designator U?
+ / -1 degC, SMBus-Compatible Remote / Local Temperature Sensor with Overtemperature Alarm, 11 Bits Temperature Resolution, -55 to 125 degC, 16-Pin SOP (E16-5), Tape and Reel; Generic Part Number: MAX6659; PartNumber: MAX6659MEE-T; Alarm Output: Alert, Overt; Functions: Remote & Local Sensor; Interface: 2-Wire/I2C/SMBus; Multi Droppable: Yes; Parasite Pwr.: No; DatasheetVersion: Rev. 5; PackageVersion: Rev. K, 04/2012; PackageReference: E16-5; PackageDescription: 16-Pin Quarter Small-Outline Package, Body 3.9 x 4.89 mm, Pitch 0.635 mm; Supplier 1: Mouser; Supplier Part Number 1: N/A; Packing: Tape and Reel; Mounting Technology: Surface Mount; Code_JEDEC: MO-137; ComponentLink1Description: Manufacturer URL; ComponentLink1URL: http://www.maximintegrated.com/; ComponentLink2Description: Datasheet; ComponentLink2URL: http://datasheets.maximintegrated.com/en/ds/MAX6657-MAX6659.pdf; ComponentLink3Description: Package Specification; ComponentLink3URL: http://pdfserv.maximintegrated.com/package_dwgs/21-0055.PDF
footprint MAXM-E16-5_N (SOP, 16-Leads, Body 4.89x3.9mm, Pitch 0.635mm, IPC Medium Density)
footprint MAXM-E16-5_L (SOP, 16-Leads, Body 4.89x3.9mm, Pitch 0.635mm, IPC High Density)
footprint MAXM-E16-5_M (SOP, 16-Leads, Body 4.89x3.9mm, Pitch 0.635mm, IPC Low Density)
part A pins: 1 VCC (power) "Supply Voltage Input, +3V to +5.5V. Bypass to GND with a 0.1uF capacitor. A 200ohm series resistor is recommended but not required for additional noise filtering. See Typical Operating Circuit.", 3 DXP "Combined Remote-Diode Current Source and A/D Positive Input for Remote-Diode Channel. DO NOT LEAVE DXP UNCONNECTED; connect DXP to DXN if no remote diode is used. Place a 2200pF capacitor between DXP and DXN for noise (See Datasheet)", 4 DXN "Combined Remote-Diode Current Sink and A/D Negative Input. DXN is internally biased to one diode drop above ground.", 5 ADD (in) "SMBus Address-Select Pin. The MAX6659 is set to one of three available addresses (connect to VCC, GND, or leave open). See Slave Addresses section.", 6 ~{OVERT1} (oc) "Overtemperature Active-Low Output, Open-Drain. Output is logic low only when temperature is above the software programmed threshold.", 7 GND (power) "Ground", 8 GND (power) "Ground", 9 ~{ALERT} (oc) "SMBus Alert (Interrupt) Active-Low Output, Open-Drain. Asserts when temperature exceeds user-set limits (high or low temperature). Stays asserted until acknowledged by either reading the Status register or by successfully (See Datasheet)", 10 ~{OVERT2} (oc) "Overtemperature Active-Low Output, Open-Drain. Output is logic low only when temperature is above the software programmed threshold.", 12 SMBDATA (io) "SMBus Serial-Data Input/Output, Open-Drain", 14 SMBCLK (in) "SMBus Serial-Clock Input", 15 ~{STBY} (in) "Hardware Standby Input. Temperature and comparison threshold data are retained in standby mode. If S\T\B\Y\ is low, the IC is put into standby mode."
part B pins: 2 NC "Not internally connected. Do not make connections to these pins.", 11 NC "Not internally connected. Do not make connections to these pins.", 13 NC "Not internally connected. Do not make connections to these pins.", 16 NC "Not internally connected. Do not make connections to these pins."